# EAGLE library part PH_EZ0 (library pH_EZ0)
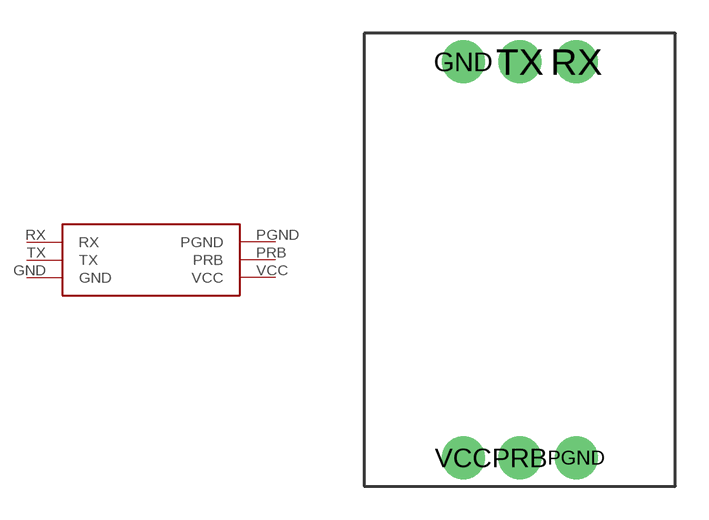
[diagram p0: symbol with the pads of PH_EZ0; footprint PH_EZ0]

Designator prefix -

## PH_EZ0  [PH_EZ0]
GND  GND
PGND  PGND
PRB  PRB
RX  RX
TX  TX
VCC  VCC

## Footprint PH_EZ0 (pad centres in mm)
drill 1 pad 1.93: GND 4.445,19.05; PGND 9.525,1.27; PRB 6.985,1.27; RX 9.525,19.05; TX 6.985,19.05; VCC 4.445,1.27